# EAGLE library part CONNECTOR-8 (library roombarmato_eagle_lib)
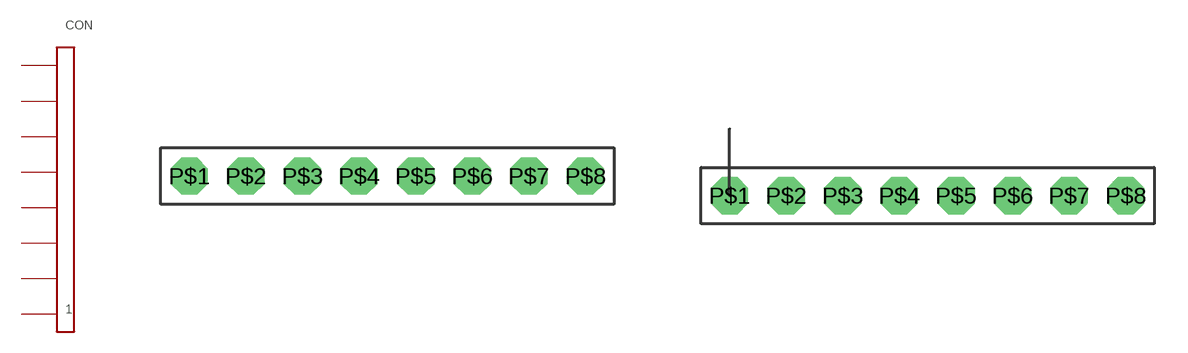
[diagram p1: symbol with the pads of 1X8-CONNECTOR; footprints 1X8-CONNECTOR, 1X8-CONNECTOR-90°]

Designator prefix CON

## CONNECTOR-8  [1X8-CONNECTOR]
P$1  P$1
P$2  P$2
P$3  P$3
P$4  P$4
P$5  P$5
P$6  P$6
P$7  P$7
P$8  P$8

## CONNECTOR-81X8-CONNECTOR-90°  [1X8-CONNECTOR-90°]
Pads as for 1X8-CONNECTOR

## CONNECTOR-82X4-CONNECTOR  [2X4-CONNECTOR]
Pads as for 1X8-CONNECTOR

## Footprint 1X8-CONNECTOR (pad centres in mm)
drill 0.8 pad 1.676 octagon: P$1 -8.89,0; P$2 -6.35,0; P$3 -3.81,0; P$4 -1.27,0; P$5 1.27,0; P$6 3.81,0; P$7 6.35,0; P$8 8.89,0

## Footprint 1X8-CONNECTOR-90° (pad centres in mm)
drill 0.8 pad 1.676 octagon: P$1 -8.89,0; P$2 -6.35,0; P$3 -3.81,0; P$4 -1.27,0; P$5 1.27,0; P$6 3.81,0; P$7 6.35,0; P$8 8.89,0

## Footprint 2X4-CONNECTOR (pad centres in mm)
drill 0.8 pad 1.676 octagon: P$1 -3.81,-1.27; P$2 -1.27,-1.27; P$3 1.27,-1.27; P$4 3.81,-1.27; P$5 3.81,1.27; P$6 1.27,1.27; P$7 -1.27,1.27; P$8 -3.81,1.27